# Altium footprint library Mach dieu khien tu xa.PcbLib: 33 footprints (part 3 of 3)
Each footprint in its own frame and in the unit in brackets; x right, y up, seen from the top. Pads: shape width x height; smd on the part's side, far side on the other; paste and mask are expansions set on the pad; w line width, h text height; cw(c..) or ccw(c..) is an arc to the next point about the centre after c.
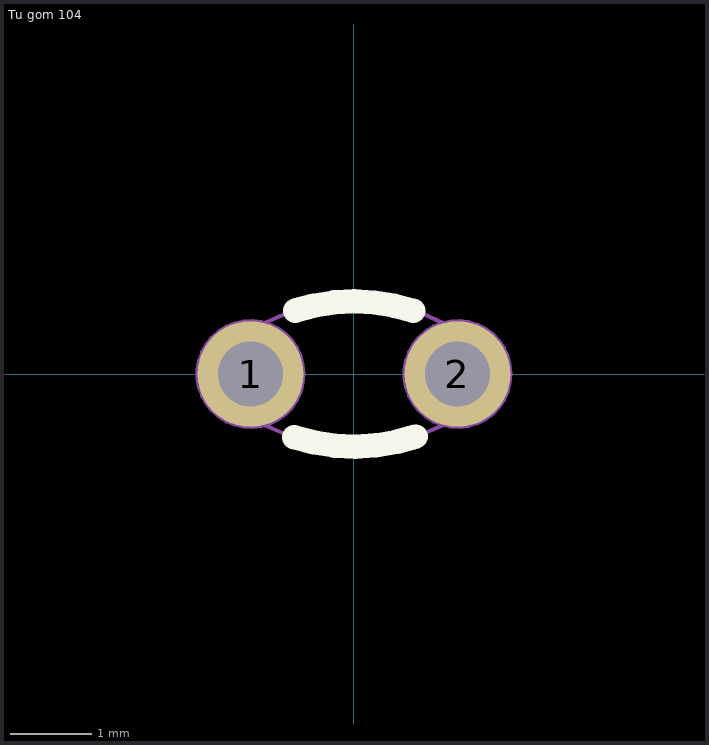
[diagram p2: the footprint, top view; thin cyan lines are the x and y axes]

## Tu gom 104 [mm] "Capacitor, Radial, Tantalum, Non-Polarised; Body 3.05 x 1.78 x 3.43 mm (WxTxH max); Pin Spacing 2.54 mm (typ)"
height 3.43
pads (2):
  round 1.3 hole 0.8: 1(-1.27,0) 2(1.27,0)
Top Overlay:
  lines w0.2: -0.053,-0.89 0.041,-0.89 ; -0.041,0.89 0.053,0.89
  lines w0.3: -0.732,-0.776 ccw(c0,1.507) 0.759,-0.767 ; -0.723,0.779 cw(c0,-1.507) 0.729,0.777
Mechanical 1:
  circle w0.05: c1.27,0 r0.65
  circle w0.05: c-1.27,0 r0.65
  lines w0.05: -1.09,0.628 cw(c0,-1.507) 1.094,0.626 ; -1.086,-0.63 ccw(c0,1.507) 1.097,-0.625
3D body "Ceramic Cap 100n.STEP": height 6.42, standoff -1.5, extent -2.917,-0.848 2.921,0.848